# EAGLE library part SAMACSYS_PARTS_NUD3124DMT1G (library WFR2020)
Automotive Inductive Load Driver Source: Datasheet <https://componentsearchengine.com/Datasheets/1/NUD3124DMT1G.pdf>
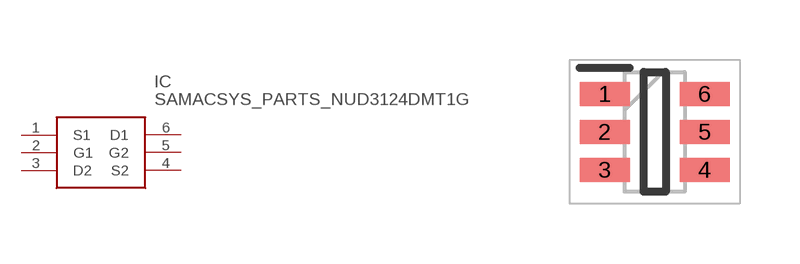
[diagram p2: symbol with the pads of SAMACSYS_PARTS_SOT95P275X110-6N; footprint SAMACSYS_PARTS_SOT95P275X110-6N]

Designator prefix IC

## SAMACSYS_PARTS_NUD3124DMT1G (DESCRIPTION: Automotive Inductive Load Driver; HEIGHT: 1.1mm; MANUFACTURER_NAME: ON Semiconductor; MANUFACTURER_PART_NUMBER: NUD3124DMT1G; MOUSER_PART_NUMBER: 863-NUD3124DMT1G)  [SAMACSYS_PARTS_SOT95P275X110-6N]
1  S1
2  G1
3  D2
4  S2
5  G2
6  D1

## Footprint SAMACSYS_PARTS_SOT95P275X110-6N (pad centres in mm)
SC-74 CASE 318F-05
smd 1.25 x 0.6: 1 -1.25,0.95; 2 -1.25,0; 3 -1.25,-0.95; 4 1.25,-0.95; 5 1.25,0; 6 1.25,0.95